# Altium schematic symbol library BAS70W-05.Schlib: 1 symbol
Pins are listed as number, name and electrical type; pins without a type are passive.

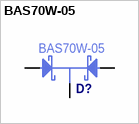
[diagram p0: symbol BAS70W-05]

## BAS70W-05
designator D?
Manufacturer Part Number: BAS70W-05
pins: 1 A1, 2 A2, 3 C